# Altium schematic symbol library PROC051C_AWR1843BOOST_RevC.SCHLIB: 180 symbols (part 1 of 4)
Pins are listed as number, name and electrical type; pins without a type are passive.

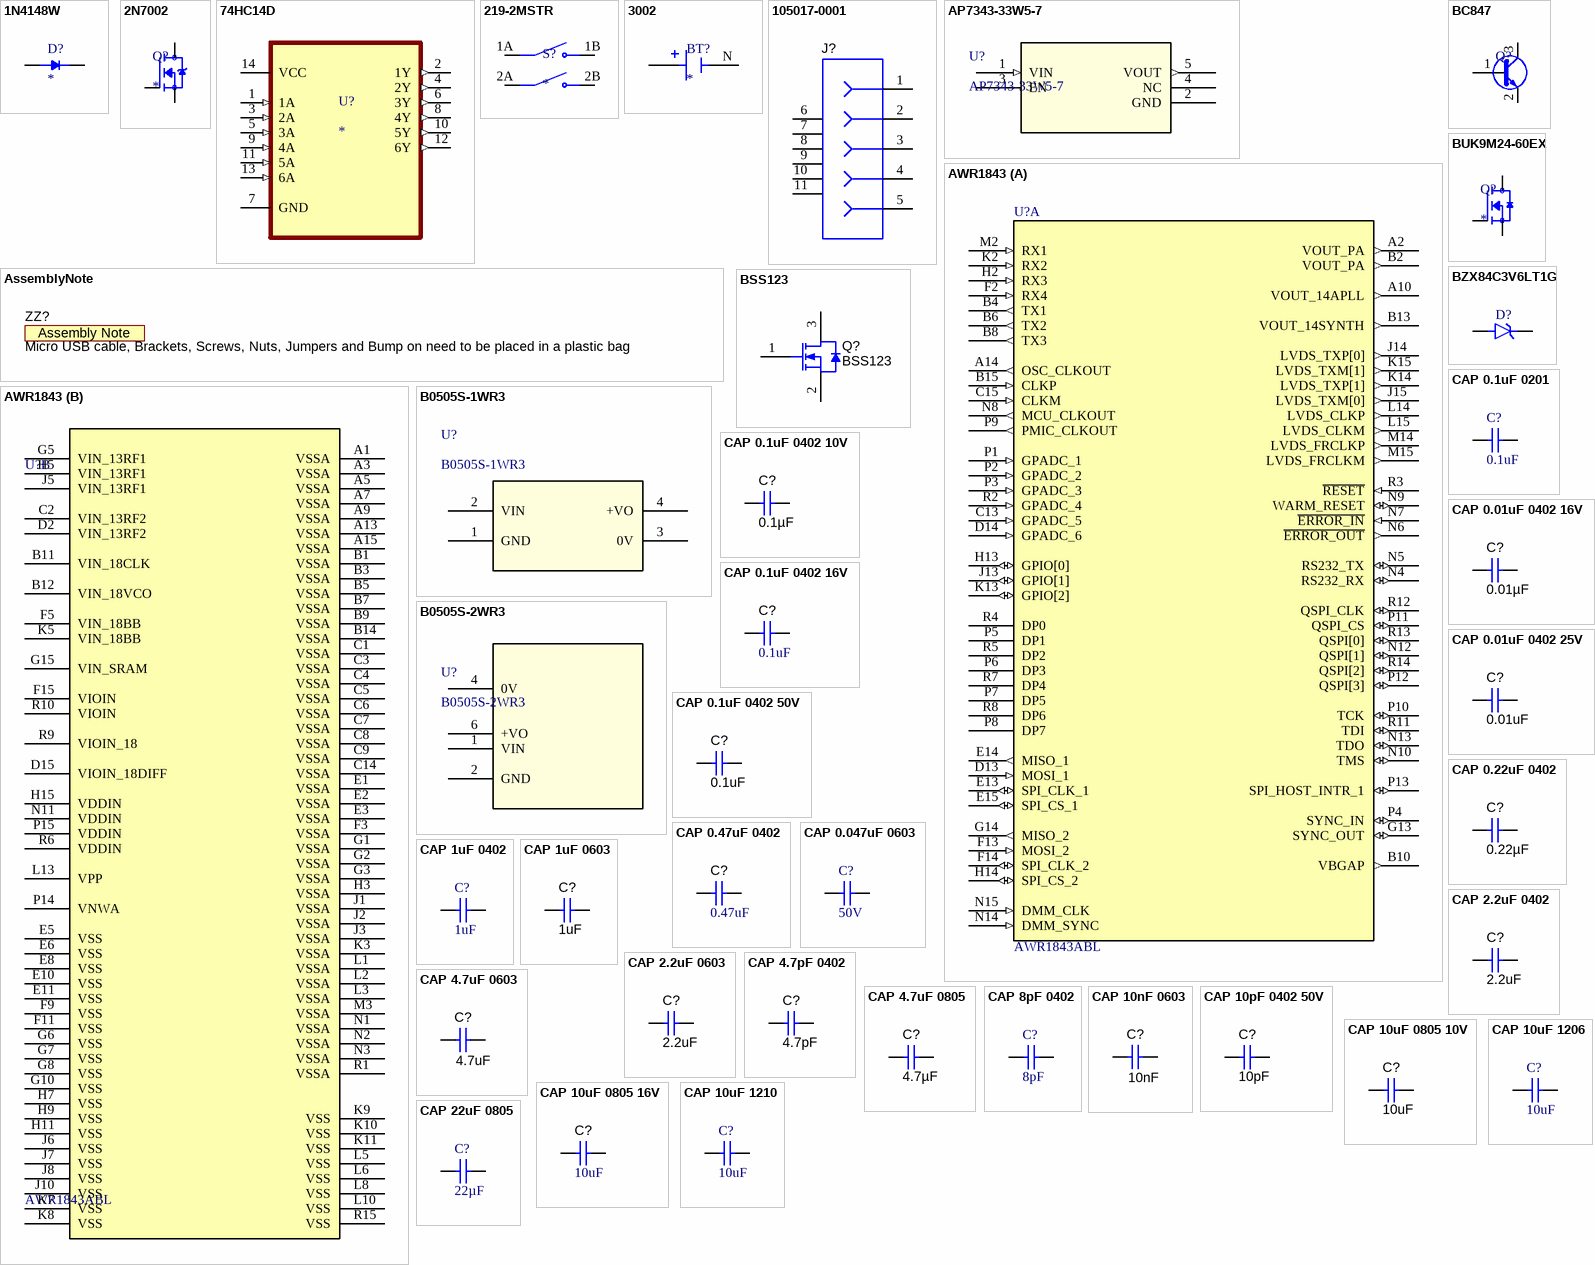
[diagram p0: symbols 1N4148W to CAP 22uF 0805]

## 1N4148W
designator D?
Diode Standard 100 V 300mA (DC) Surface Mount SOD-123; MF: Diodes Inc.; MP: 1N4148W-7; SnapEDA_Link: https://www.snapeda.com/parts/1N4148W-7/Diodes+Inc./view-part/?ref=snap; Package: SOD-123 Fairchild Semiconductor; Value: *; Check_prices: https://www.snapeda.com/parts/1N4148W-7/Diodes+Inc./view-part/?ref=eda
footprint SOD3715X135N
pins: A, C K

## 2N7002
designator Q?
Mosfet Array 2 N-Channel (Dual) 60V 300mA 500mW Surface Mount PG-SOT363-6; MF: onsemi; MP: 2N7002; SnapEDA_Link: https://www.snapeda.com/parts/2N7002/Onsemi/view-part/?ref=snap; Package: SOT-23-3 ON Semiconductor; Value: *; Check_prices: https://www.snapeda.com/parts/2N7002/Onsemi/view-part/?ref=eda
footprint SOT95P240X111-3N
pins: 1 G, 2 S, 3 D

## 74HC14D
designator U?
Inverter IC 6 Channel Schmitt Trigger 14-SOIC; MF: Toshiba; MP: 74HC14D; SnapEDA_Link: https://www.snapeda.com/parts/74HC14D/Toshiba/view-part/?ref=snap; Package: SO14-14 Nexperia USA Inc.; Value: *; Check_prices: https://www.snapeda.com/parts/74HC14D/Toshiba/view-part/?ref=eda
footprint SOIC127P600X175-14N
pins: 1 1A (in), 2 1Y (out), 3 2A (in), 4 2Y (out), 5 3A (in), 6 3Y (out), 7 GND, 8 4Y (out), 9 4A (in), 10 5Y (out), 11 5A (in), 12 6Y (out), 13 6A (in), 14 VCC (power)

## 219-2MSTR
designator S?
Dip Switch SPST 2 Position Surface Mount Slide (Standard) Actuator 100mA 20VDC; MF: CTS Electrocomponents; MP: 219-2MSTR; SnapEDA_Link: https://www.snapeda.com/parts/219-2MSTR/CTS+Components/view-part/?ref=snap; Package: None; Value: *; Check_prices: https://www.snapeda.com/parts/219-2MSTR/CTS+Components/view-part/?ref=eda
footprint SW_219-2MSTR
pins: 1A COM1, 1B NO1, 2A COM2, 2B NO2

## 3002
designator BT?
Battery Holder: SMT, 1 Coin Cell, 20mm, PhosBronze/Tin-Nickel | Keystone Electronics 3002; MF: Keystone Electronics Corp.; MP: 3002; SnapEDA_Link: https://www.snapeda.com/parts/3002/Keystone/view-part/?ref=snap; Package: NON STANDARD-2 Keystone; Value: *; Check_prices: https://www.snapeda.com/parts/3002/Keystone/view-part/?ref=eda
footprint BAT_3002
footprint BAT_3002
pins: N NEG, P1 POS, P2 POS

## 105017-0001
designator J?  (value not drawn)
Connector, Receptacle, Micro-USB Type B, R/A, Bottom Mount SMT; Manufacturer: Molex; CNHeader: FALSE; Green_Lifecycle: Active; Gender: Female; Green_REACh: Passed; CompType: USB; CT: TRUE; ComponentLink1URL: http://www.molex.com/pdm_docs/sd/1050170001_sd.pdf; Supplier Part Number 2: 78R1699; Publisher: Texas Instruments; Supplier 2: Newark; Supplier Part Number 3: 538-105017-0001; Supplier 3: Mouser; RoHS: Y; MountType: SMT; Green_EU RoHS-2: Passed; Supplier 1: Digi-Key; Green_EU RoHS: Passed; PackageReference: Micro USB receptacle; LatestRevisionDate: 26/05/2017; PartNumber: 105017-0001; ComponentLink1Description: Datasheet URL; Supplier Part Number 1: WM1399CT-ND
footprint CONN_105017-0001 (Molex Micro USB-B)
pins: 1, 2, 3, 4, 5, 6, 7, 8, 9, 10, 11

## AP7343-33W5-7
designator U?
Description; Manufacturer_Name: Diodes Inc; Type: Power Management; Copyright: Copyright (C) 2025 Ultra Librarian. All rights reserved.; Manufacturer_Part_Number: AP7343-33W5-7; RefDes: RefDes
footprint SOT25_DIO
pins: 1 VIN (in), 2 GND (power), 3 EN, 4 NC, 5 VOUT (out)

## AssemblyNote
designator ZZ?, comment Micro USB cable, Brackets, Screws, Nuts, Jumpers and Bump on need to be placed in a plastic bag  (no BOM)
SymbolCreator: codlsc; CompType: AssemblyNote; SymbolVersion: 2010-05-18; ClassName: AssemblyNote; Publisher: Texas Instruments; LatestRevisionDate: 2012-06-14; LatestRevisionNote: Initial Version; Alternate Manufacturer: -; Alternate PartNumber: -
footprint AssemblyNote (Assembly Note)
text: Assembly Note

## AWR1843
designator U?, comment AWR1843ABL
AWR1843ABL, ABL0161B (FCBGA-161); Manufacturer: Texas Instruments; AEC Qualified: N; SizeArea_mm2: 108.16; CompType: IC; SizeAreaWB_mm2: 153.76; AEC Category: Q200; SizeY_mm: 10.4; SizeZ_mm: 1.17; ComponentLink2Description: Product Folder; PackageDescription: FCBGA-161; PackageReference: ABL0161B; ComponentLink1Description: Datasheet Link; MountType: SMT; ComponentLink1URL: https://sps16.itg.ti.com/sites/KMS/crossdivteams/altium/docs/AWR1843_ballout_05Sep17.xlsx; ComponentLink2URL: TBD; Alternate Manufacturer: Texas Instruments; SizeX_mm: 10.4; PartId: 1; PartNumber: AWR1843ABL
footprint ABL0161B (BGA, 161-Balls, Body 10.4x10.4mm, Pitch 0.65mm)
part A pins: A2 VOUT_PA (out), A10 VOUT_14APLL (out), A14 OSC_CLKOUT (out), B2 VOUT_PA (out), B4 TX1 (out), B6 TX2 (out), B8 TX3 (out), B10 VBGAP (out), B13 VOUT_14SYNTH (out), B15 CLKP (in), C13 GPADC_5 (in), C15 CLKM (in), D13 MOSI_1 (in), D14 GPADC_6 (in), E13 SPI_CLK_1 (io), E14 MISO_1 (out), E15 SPI_CS_1 (io), F2 RX4 (in), F13 MOSI_2 (in), F14 SPI_CLK_2 (io), G13 SYNC_OUT (io), G14 MISO_2 (out), H2 RX3 (in), H13 GPIO[0] (io), H14 SPI_CS_2 (io), J13 GPIO[1] (io), J14 LVDS_TXP[0] (out), J15 LVDS_TXM[0] (out), K2 RX2 (in), K13 GPIO[2] (io), K14 LVDS_TXP[1] (out), K15 LVDS_TXM[1] (out), L14 LVDS_CLKP (out), L15 LVDS_CLKM (out), M2 RX1 (in), M14 LVDS_FRCLKP (out), M15 LVDS_FRCLKM (out), N4 RS232_RX (io), N5 RS232_TX (io), N6 ~{ERROR_OUT} (out), N7 ~{ERROR_IN} (in), N8 MCU_CLKOUT (out), N9 WARM_RESET (io), N10 TMS (io), N12 QSPI[1] (io), N13 TDO (io), N14 DMM_SYNC (in), N15 DMM_CLK (in), P1 GPADC_1 (in), P2 GPADC_2 (in), P3 GPADC_3 (in), P4 SYNC_IN (io), P5 DP1, P6 DP3, P7 DP5, P8 DP7, P9 PMIC_CLKOUT (out), P10 TCK (io), P11 QSPI_CS (io), P12 QSPI[3] (io), P13 SPI_HOST_INTR_1 (io), R2 GPADC_4 (in), R3 ~{RESET} (in), R4 DP0, R5 DP2, R7 DP4, R8 DP6, R11 TDI (io), R12 QSPI_CLK (io), R13 QSPI[0] (io), R14 QSPI[2] (io)
part B pins: A1 VSSA (power), A3 VSSA (power), A5 VSSA (power), A7 VSSA (power), A9 VSSA (power), A13 VSSA (power), A15 VSSA (power), B1 VSSA (power), B3 VSSA (power), B5 VSSA (power), B7 VSSA (power), B9 VSSA (power), B11 VIN_18CLK (power), B12 VIN_18VCO (power), B14 VSSA (power), C1 VSSA (power), C2 VIN_13RF2 (power), C3 VSSA (power), C4 VSSA (power), C5 VSSA (power), C6 VSSA (power), C7 VSSA (power), C8 VSSA (power), C9 VSSA (power), C14 VSSA (power), D2 VIN_13RF2 (power), D15 VIOIN_18DIFF (power), E1 VSSA (power), E2 VSSA (power), E3 VSSA (power), E5 VSS (power), E6 VSS (power), E8 VSS (power), E10 VSS (power), E11 VSS (power), F3 VSSA (power), F5 VIN_18BB (power), F9 VSS (power), F11 VSS (power), F15 VIOIN (power), G1 VSSA (power), G2 VSSA (power), G3 VSSA (power), G5 VIN_13RF1 (power), G6 VSS (power), G7 VSS (power), G8 VSS (power), G10 VSS (power), G15 VIN_SRAM (power), H3 VSSA (power), H5 VIN_13RF1 (power), H7 VSS (power), H9 VSS (power), H11 VSS (power), H15 VDDIN (power), J1 VSSA (power), J2 VSSA (power), J3 VSSA (power), J5 VIN_13RF1 (power), J6 VSS (power), J7 VSS (power), J8 VSS (power), J10 VSS (power), K3 VSSA (power), K5 VIN_18BB (power), K7 VSS (power), K8 VSS (power), K9 VSS (power), K10 VSS (power), K11 VSS (power), L1 VSSA (power), L2 VSSA (power), L3 VSSA (power), L5 VSS (power), L6 VSS (power), L8 VSS (power), L10 VSS (power), L13 VPP (power), M3 VSSA (power), N1 VSSA (power), N2 VSSA (power), N3 VSSA (power), N11 VDDIN (power), P14 VNWA (power), P15 VDDIN (power), R1 VSSA (power), R6 VDDIN (power), R9 VIOIN_18 (power), R10 VIOIN (power), R15 VSS (power)

## B0505S-1WR3
designator U?
Description; Manufacturer_Name: MORNSUN; Type: DC DC Converters; Copyright: Copyright (C) 2026 Ultra Librarian. All rights reserved.; Manufacturer_Part_Number: B0505S-1WR3; RefDes: RefDes
footprint SIP4_B_S-1WR3_MNS
pins: 1 GND (power), 2 VIN (power), 3 0V, 4 +VO (power)

## B0505S-2WR3
designator U?
Description; Manufacturer_Name: MORNSUN; Type: DC DC Converters; Copyright: Copyright (C) 2026 Ultra Librarian. All rights reserved.; Manufacturer_Part_Number: B0505S-2WR3; RefDes: RefDes
footprint B_S-2WR2_MNS
pins: 1 VIN (power), 2 GND (power), 4 0V, 6 +VO (power)

## BC847
designator Q?  (value not drawn)
footprint SOT-23 (SOT23, 3-Leads, Body 2.9x1.3mm, Pitch 0.95mm, Lead Span 2.5mm, IPC Medium Density)
pins: 1 B, 2 E, 3 C

## BSS123
designator Q?
MOSFET, N-CH, 100 V, 0.17 A, SOT-23; Alternate Manufacturer: None; Manufacturer: Fairchild Semiconductor; SizeZ_mm: 1.1; ChType: N; Value2: 1.8 nC; Value1: 1; VdsMax_V: 100V; SizeX_mm: 2.5; SizeY_mm: 3; Vgs_V: 20V; Value: 100V; Rdson45_ohm: 10; SizeArea_mm2: 7.5; AEC Category: Q101; IdsMax_A: 1.7dA; SizeAreaWB_mm2: 14; U/M: EA; QgTyp_nC: 1.8; Supplier 2: Newark; Supplier 3: Mouser; Supplier 1: Digi-Key; Supplier Part Number 1: BSS123NCT-ND; Supplier Part Number 2: 58K8768; PartNumber: BSS123; ComponentLink1Description: Datasheet link; LatestRevisionDate: 2017-03-09; CompType: MOSFET; PackageReference: SOT-23; LatestRevisionNote: Added parts.; Publisher: Texas Instruments; AEC Qualified: ?; Published: 2008-06-19; Supplier Part Number 3: 512-BSS123; RoHS: Y; MountType: SMT; ComponentLink1URL: http://www.fairchildsemi.com/ds/BS/BSS123.pdf
footprint SOT-23 (SOT23, 3-Leads, Body 2.9x1.3mm, Pitch 0.95mm, Lead Span 2.5mm, IPC Medium Density)
footprint SOT-23L (SOT23, 3-Leads, Body 2.9x1.3mm, Pitch 0.95mm, Lead Span 2.5mm, IPC High Density)
footprint SOT-23M (SOT23, 3-Leads, Body 2.9x1.3mm, Pitch 0.95mm, Lead Span 2.5mm, IPC Low Density)
pins: 1 G, 2 S, 3 D

## BUK9M24-60EX
designator Q?
N-Channel 60 V 32A (Tc) 55W (Tc) Surface Mount LFPAK33; MF: Nexperia USA; MP: BUK9M24-60EX; SnapEDA_Link: https://www.snapeda.com/parts/BUK9M24-60EX/Nexperia/view-part/?ref=snap; Package: LFPAK33-8 Nexperia USA Inc.; Value: *; Check_prices: https://www.snapeda.com/parts/BUK9M24-60EX/Nexperia/view-part/?ref=eda
footprint TRANS_BUK9M24-60EX
pins: 1 S, 2 S, 3 S, 4 G, 5_8 D

## BZX84C3V6LT1G
designator D?  (value not drawn)
MP: BZX84C10LT1G; Package: None; Price: None; Value: *; Availability: Unavailable
footprint SOT95P240X111-3N
pins: 1 A, 3 K

## CAP 0.1uF 0201
designator C?, comment ValueDisplayed: 0.1uF  (hidden comment: GRM033C71A104KE14D)
CAP, CERM, 0.1 uF, 10 V,+/- 10%, X7S, 0201; Manufacturer: MuRata; TaMin_C: -55°C; Polarized: N; SizeAreaWB_mm2: 2.08; Value1: Unknown; U/M: EA; Value: 0.1uF; TaMax_C: 125°C; SizeZ_mm: 0.26; SizeX_mm: 0.6; SizeY_mm: 0.3; Cap_Case: 0201; Value2: 10V; SizeArea_mm2: 0.18; CompType: Capacitor; Cap_F: 100nF; AEC Category: Q200; ComponentLink1URL: http://search.murata.co.jp/Ceramy/image/img/A01X/G101/ENG/GRM033C71A104KE14-01.pdf; Supplier Part Number 2: 81-GRM033C71A104KE4D; Publisher: Texas Instruments; Supplier 2: Mouser; TempCo: X7S; Published: 2008-06-19; RoHS: Y; MountType: SMT; Supplier 1: Digi-Key; PackageReference: 0201; Tolerance_%: 10%; LatestRevisionDate: 2017-06-05; PartNumber: GRM033C71A104KE14D; AEC Qualified: N; VDC_V: 10V; ComponentLink1Description: Datasheet link; AEC Grade: N/A; Supplier Part Number 1: 490-14450-1-ND; Technology: Ceramic
footprint 0201 (Data from Kemet datasheet CC101_COM dated 7/28/11)
footprint 0201_Silk (Data from Kemet datasheet CC101_COM dated 7/28/11)
footprint 0201L (Data from Kemet datasheet CC101_COM dated 7/28/11)
footprint 0201M (Data from Kemet datasheet CC101_COM dated 7/28/11)
pins: 1, 2

## CAP 0.1uF 0402 10V
designator C?, comment ValueDisplayed: 0.1µF  (hidden comment: C0402C104K8RACTU)
CAP, CERM, 0.1 µF, 10 V,+/- 10%, X7R, 0402; Manufacturer: Kemet; TaMin_C: -55°C; Polarized: N; SizeAreaWB_mm2: 3; U/M: EA; Value: 0.1uF; TaMax_C: 125°C; SizeZ_mm: 0.6; SizeX_mm: 1; SizeY_mm: 0.5; Cap_Case: 0402; Value2: 10V; CompType: Capacitor; Cap_F: 100nF; AEC Category: Q200; ComponentLink1URL: https://content.kemet.com/datasheets/KEM_C1002_X7R_SMD.pdf; Supplier Part Number 2: 68X2393; Supplier 2: Newark; Supplier Part Number 3: 80-C0402C104K8R; TempCo: X7R; Supplier 3: Mouser; RoHS: Y; MountType: SMT; Supplier 1: Digi-Key; PackageReference: 0402; Tolerance_%: 10%; SizeArea_mm2: 0.5; PartNumber: C0402C104K8RACTU; AEC Qualified: N; VDC_V: 10V; ComponentLink1Description: Datasheet link; AEC Grade: N/A; Supplier Part Number 1: 399-3520-1-ND; Technology: Ceramic
footprint 0402 (0402 from SM-752 data)
footprint 0402M (0402 from SM-752 data)
footprint 0402L (0402 from SM-752 data)
footprint 0402S (Based on C0402S footprint from PADS legacy)
pins: 1, 2

## CAP 0.01uF 0402 16V
designator C?, comment ValueDisplayed: 0.01µF  (hidden comment: C0402C103K4RACTU)
CAP, CERM, 0.01 µF, 16 V,+/- 10%, X7R, 0402; Manufacturer: Kemet; TaMin_C: -55°C; Polarized: N; Green_Lifecycle: Active; SizeAreaWB_mm2: 3; Green_REACh: Passed; U/M: EA; Value: 0.01uF; TaMax_C: 125°C; SizeZ_mm: 0.6; SizeX_mm: 1; SizeY_mm: 0.5; Cap_Case: 0402; Value2: 16V; CompType: Capacitor; Cap_F: 10nF; AEC Category: Q200; ComponentLink1URL: https://content.kemet.com/datasheets/KEM_C1002_X7R_SMD.pdf; Supplier Part Number 2: 66W8706; Supplier 2: Newark; Supplier Part Number 3: 80-C0402C103K4R; TempCo: X7R; Supplier 3: Mouser; RoHS: Y; MountType: SMT; Green_EU RoHS-2: Passed; Supplier 1: Digi-Key; Green_EU RoHS: Passed; PackageReference: 0402; Tolerance_%: 10%; SizeArea_mm2: 0.5; PartNumber: C0402C103K4RACTU; AEC Qualified: N; VDC_V: 16V; ComponentLink1Description: Datasheet link; AEC Grade: N/A; Supplier Part Number 1: 399-1038-1-ND; Technology: Ceramic
footprint 0402 (0402 from SM-752 data)
footprint 0402M (0402 from SM-752 data)
footprint 0402L (0402 from SM-752 data)
footprint 0402S (Based on C0402S footprint from PADS legacy)
pins: 1, 2

## CAP 0.1uF 0402 16V
designator C?, comment ValueDisplayed: 0.1uF  (hidden comment: Capacitor)
CAP, CERM, 0.1 uF, 16 V, +/- 10%, X7R, 0402; PartNumber: 0402YC104KAT2A; Manufacturer: AVX; Polarized: N; Value: 0.1uF; U/M: EA; Cap_F: 100nF; Value1: Unknown; VDC_V: 16V; TaMin_C: -55°C; TaMax_C: 125°C; Cap_Case: 0402; SizeArea_mm2: 0.5; SizeAreaWB_mm2: 3; SizeX_mm: 1; SizeZ_mm: 0.6; AEC Category: Q200; CompType: Capacitor; PackageReference: 0402; RoHS: Y; Tolerance_%: 10%; Value2: 16V; MountType: SMT; Technology: Ceramic; TempCo: X7R; SizeY_mm: 0.5; Published: 2008-06-19; Publisher: Texas Instruments; LatestRevisionDate: 2017-03-09; ComponentLink1Description: Datasheet link; ComponentLink1URL: http://catalogs.avx.com/SurfaceMount.pdf; Supplier 1: Digi-Key; Supplier Part Number 1: 478-7888-1-ND; Supplier 2: Newark; Supplier Part Number 2: 09R7024; Supplier 3: Mouser; Supplier Part Number 3: 581-0402YC104KAT2A; AEC Qualified: N; AEC Grade: N/A
footprint 0402 (0402 from SM-752 data)
footprint 0402S (Based on C0402S footprint from PADS legacy)
footprint 0402L (0402 from SM-752 data)
footprint 0402M (0402 from SM-752 data)
pins: 1, 2

## CAP 0.01uF 0402 25V
designator C?, comment ValueDisplayed: 0.01uF  (hidden comment: GCM155R71E103KA37D)
CAP, CERM, 0.01 uF, 25 V, +/- 10%, X7R, 0402; Manufacturer: MuRata; TaMin_C: -55°C; Polarized: N; SizeAreaWB_mm2: 3; Value1: Unknown; U/M: EA; Value: 0.01uF; TaMax_C: 125°C; SizeZ_mm: 0.6; SizeX_mm: 1; SizeY_mm: 0.5; Cap_Case: 0402; Value2: 25V; CompType: Capacitor; Cap_F: 10nF; AEC Category: Q200; Publisher: Texas Instruments; TempCo: X7R; Published: 2008-06-19; RoHS: Y; MountType: SMT; Supplier 1: Digi-Key; PackageReference: 0402; Tolerance_%: 10%; SizeArea_mm2: 0.5; LatestRevisionDate: 2017-03-09; PartNumber: GCM155R71E103KA37D; AEC Qualified: ?; VDC_V: 25V; ComponentLink1Description: Datasheet link; Supplier Part Number 1: 490-6043-2-ND; Technology: Ceramic; ComponentLink1URL: http://psearch.murata.com/capacitor/product/GCM155R71E103KA37%23.pdf
footprint 0402 (0402 from SM-752 data)
footprint 0402S (Based on C0402S footprint from PADS legacy)
footprint 0402L (0402 from SM-752 data)
footprint 0402M (0402 from SM-752 data)
pins: 1, 2

## CAP 0.1uF 0402 50V
designator C?, comment ValueDisplayed: 0.1uF  (hidden comment: CGA2B3X7R1H104K050BB)
CAP, CERM, 0.1 uF, 50 V, +/- 10%, X7R, AEC-Q200 Grade 1, 0402; Manufacturer: TDK; TaMin_C: -55°C; ESR_ohm: 0.039064; Polarized: N; SizeAreaWB_mm2: 3; Value1: 0.039064 ohm; U/M: EA; Value: 0.1uF; TaMax_C: 125°C; SizeZ_mm: 0.6; SizeX_mm: 1; SizeY_mm: 0.5; Cap_Case: 0402; Value2: 50V; CompType: Capacitor; AEC Qualified: Y; Cap_F: 100nF; IRMS_A: 8.14669dA; AEC Category: Q200; Supplier Part Number 2: 04X3148; Publisher: Texas Instruments; Supplier 2: Newark; Supplier Part Number 3: 810-CGA2B3X7R1H104K; TempCo: X7R; Supplier 3: Mouser; Published: 2008-06-19; RoHS: Y; MountType: SMT; Supplier 1: Digi-Key; PackageReference: 0402; Tolerance_%: 10%; SizeArea_mm2: 0.5; LatestRevisionDate: 2017-03-09; PartNumber: CGA2B3X7R1H104K050BB; VDC_V: 50V; ComponentLink1Description: Datasheet link; AEC Grade: 1; Supplier Part Number 1: 445-6899-1-ND; Technology: Ceramic; ComponentLink1URL: https://product.tdk.com/en/search/capacitor/ceramic/mlcc/info?part_no=CGA2B3X7R1H104K050BB
footprint 0402 (0402 from SM-752 data)
footprint 0402S (Based on C0402S footprint from PADS legacy)
footprint 0402L (0402 from SM-752 data)
footprint 0402M (0402 from SM-752 data)
pins: 1, 2

## CAP 0.22uF 0402
designator C?, comment ValueDisplayed: 0.22µF  (hidden comment: GCM155R71C224KE02D)
CAP, CERM, 0.22 µF, 16 V,+/- 10%, X7R, AEC-Q200 Grade 1, 0402; Manufacturer: MuRata; TaMin_C: -55°C; Polarized: N; SizeAreaWB_mm2: 3; U/M: EA; Value: 0.22uF; TaMax_C: 125°C; SizeZ_mm: 0.6; SizeX_mm: 1; SizeY_mm: 0.5; Cap_Case: 0402; Value2: 16V; CompType: Capacitor; AEC Qualified: Y; Cap_F: 220nF; AEC Category: Q200; ComponentLink1URL: http://psearch.en.murata.com/capacitor/product/GCM155R71C224KE02%23.pdf; Supplier Part Number 2: 81-GCM155R71C224KE2D; Supplier 2: Mouser; TempCo: X7R; RoHS: Y; MountType: SMT; Supplier 1: Digi-Key; PackageReference: 0402; Tolerance_%: 10%; SizeArea_mm2: 0.5; PartNumber: GCM155R71C224KE02D; VDC_V: 16V; ComponentLink1Description: Datasheet link; AEC Grade: 1; Supplier Part Number 1: 490-10671-1-ND; Technology: Ceramic
footprint 0402 (0402 from SM-752 data)
footprint 0402M (0402 from SM-752 data)
footprint 0402L (0402 from SM-752 data)
footprint 0402S (Based on C0402S footprint from PADS legacy)
pins: 1, 2

## CAP 0.47uF 0402
designator C?, comment ValueDisplayed: 0.47uF  (hidden comment: Capacitor)
CAP, CERM, 0.47 uF, 6.3 V, +/- 10%, X7R, 0402; PartNumber: JMK105B7474KVHF; Manufacturer: Taiyo Yuden; Polarized: N; Value: 0.47uF; U/M: EA; Cap_F: 470nF; Value1: Unknown; VDC_V: 6.3V; TaMin_C: -55°C; TaMax_C: 125°C; Cap_Case: 0402; SizeArea_mm2: 0.5; SizeAreaWB_mm2: 3; SizeX_mm: 1; SizeZ_mm: 0.6; AEC Category: Q200; CompType: Capacitor; PackageReference: 0402; RoHS: Y; Tolerance_%: 10%; Value2: 6.3V; MountType: SMT; Technology: Ceramic; TempCo: X7R; SizeY_mm: 0.5; Published: 2008-06-19; Publisher: Texas Instruments; LatestRevisionDate: 2017-03-09; ComponentLink1Description: Datasheet link; ComponentLink1URL: http://ds.yuden.co.jp/TYCOMPAS/ut/detail.do?productNo=JMK105B7474KVHF&fileName=JMK105B7474KVHF_SS&mode=specSheetDownload; Supplier 1: Digi-Key; Supplier Part Number 1: 587-3765-1-ND; Supplier 2: Newark; Supplier Part Number 2: 68X1479; Supplier 3: Mouser; Supplier Part Number 3: 963-JMK105B7474KVHF; AEC Qualified: N; AEC Grade: N/A
footprint 0402 (0402 from SM-752 data)
footprint 0402S (Based on C0402S footprint from PADS legacy)
footprint 0402L (0402 from SM-752 data)
footprint 0402M (0402 from SM-752 data)
pins: 1, 2

## CAP 0.047uF 0603
designator C?, comment VDC_V: 50V  (hidden comment: 06035C473JAT2A)
CAP, CERM, 0.047 µF, 50 V,+/- 5%, X7R, 0603; Manufacturer: AVX; Cap_F: 47nF; TaMax_C: 125°C; Value: 0.047uF; SizeX_mm: 1.6; SizeArea_mm2: 1.28; AEC Category: Q200; SizeY_mm: 0.8; Polarized: N; Cap_Case: 0603; CompType: Capacitor; SizeAreaWB_mm2: 4.68; U/M: EA; TaMin_C: -55°C; SizeZ_mm: 1; Tolerance_%: 5%; ComponentLink1URL: http://datasheets.avx.com/X7RDielectric.pdf; Value2: 50V; MountType: SMT; Technology: Ceramic; PartNumber: 06035C473JAT2A; AEC Grade: N/A; ComponentLink1Description: Datasheet link; ValueDisplayed: 0.047µF; PackageReference: 0603; RoHS: Y; TempCo: X7R; AEC Qualified: N
footprint 0603 (0603 from SM-752 data)
footprint 0603M (0603 from SM-752 data)
footprint 0603L (0603 from SM-752 data)
footprint 0603_HV (Ernesto recommended land pattern.  26 mil between pads.)
footprint 0603S
pins: 1, 2

## CAP 1uF 0402
designator C?, comment ValueDisplayed: 1uF  (hidden comment: GCM155C71A105KE38D)
CAP, CERM, 1 uF, 10 V, +/- 10%, X7S, AEC-Q200 Grade 1, 0402; Manufacturer: MuRata; TaMin_C: -55°C; Polarized: N; SizeAreaWB_mm2: 3; Value1: Unknown; U/M: EA; Value: 1uF; TaMax_C: 125°C; SizeZ_mm: 0.7; SizeX_mm: 1; SizeY_mm: 0.5; Cap_Case: 0402; Value2: 10V; CompType: Capacitor; AEC Qualified: Y; Cap_F: 1µF; AEC Category: Q200; Publisher: Texas Instruments; TempCo: X7S; Published: 2008-06-19; RoHS: Y; MountType: SMT; Supplier 1: Mouser; PackageReference: 0402; Tolerance_%: 10%; SizeArea_mm2: 0.5; LatestRevisionDate: 2017-03-09; PartNumber: GCM155C71A105KE38D; VDC_V: 10V; ComponentLink1Description: Datasheet link; AEC Grade: 1; Supplier Part Number 1: 81-GCM155C71A105KE8D; Technology: Ceramic; ComponentLink1URL: http://psearch.en.murata.com/capacitor/product/GCM155C71A105KE38%23.pdf
footprint 0402_070 (SMD, 2-Leads, Body 1.2x0.7mm, Height 0.7mm)
pins: 1, 2

## CAP 1uF 0603
designator C?, comment ValueDisplayed: 1uF  (hidden comment: GCM188R71C105KA64D)
CAP, CERM, 1 uF, 16 V, +/- 10%, X7R, AEC-Q200 Grade 1, 0603; Manufacturer: MuRata; TaMin_C: -55°C; Polarized: N; SizeAreaWB_mm2: 4.68; Value1: Unknown; U/M: EA; Value: 1uF; TaMax_C: 125°C; SizeZ_mm: 1; SizeX_mm: 1.6; SizeY_mm: 0.8; Cap_Case: 0603; Value2: 16V; SizeArea_mm2: 1.28; CompType: Capacitor; AEC Qualified: Y; Cap_F: 1µF; AEC Category: Q200; Supplier Part Number 2: 81-GCM188R71C105K64D; Publisher: Texas Instruments; Supplier 2: Mouser; TempCo: X7R; Published: 2008-06-19; RoHS: Y; MountType: SMT; Supplier 1: Digi-Key; PackageReference: 0603; Tolerance_%: 10%; LatestRevisionDate: 2017-03-09; PartNumber: GCM188R71C105KA64D; VDC_V: 16V; ComponentLink1Description: Datasheet link; AEC Grade: 1; Supplier Part Number 1: 490-5241-6-ND; Technology: Ceramic; ComponentLink1URL: http://psearch.en.murata.com/capacitor/product/GCM188R71C105KA64%23.pdf
footprint 0603 (0603 from SM-752 data)
footprint 0603_HV (Ernesto recommended land pattern.  26 mil between pads.)
footprint 0603L (0603 from SM-752 data)
footprint 0603S
footprint 0603M (0603 from SM-752 data)
pins: 1, 2

## CAP 2.2uF 0402
designator C?, comment ValueDisplayed: 2.2uF  (hidden comment: C1005X7S1A225K050BC)
CAP, CERM, 2.2 uF, 10 V, +/- 10%, X7S, 0402; Manufacturer: TDK; TaMin_C: -55°C; ESR_ohm: 5.925m; Polarized: N; SizeAreaWB_mm2: 3; Value1: 0.005925 ohm; U/M: EA; Value: 2.2uF; TaMax_C: 125°C; SizeZ_mm: 0.65; SizeX_mm: 1; SizeY_mm: 0.5; Cap_Case: 0402_065; Value2: 10V; CompType: Capacitor; Cap_F: 2.2µF; IRMS_A: 2.05591A; AEC Category: Q200; Supplier Part Number 2: 810-C1005X7S1A225K; Publisher: Texas Instruments; Supplier 2: Mouser; TempCo: X7S; Published: 2008-06-19; RoHS: Y; MountType: SMT; Supplier 1: Digi-Key; PackageReference: 0402; Tolerance_%: 10%; SizeArea_mm2: 0.5; LatestRevisionDate: 2017-03-09; PartNumber: C1005X7S1A225K050BC; AEC Qualified: N; VDC_V: 10V; ComponentLink1Description: Datasheet link; AEC Grade: N/A; Supplier Part Number 1: 445-9097-1-ND; Technology: Ceramic; ComponentLink1URL: https://product.tdk.com/en/search/capacitor/ceramic/mlcc/info?part_no=C1005X7S1A225K050BC
footprint 0402_065 (0402)
footprint 0402_065S (Based on C0402S footprint from PADS legacy)
footprint 0402_065L (0402)
footprint 0402_065M (0402)
pins: 1, 2

## CAP 2.2uF 0603
designator C?, comment ValueDisplayed: 2.2uF  (hidden comment: GCM188R70J225KE22D)
CAP, CERM, 2.2 uF, 6.3 V, +/- 10%, X7R, AEC-Q200 Grade 1, 0603; Manufacturer: MuRata; TaMin_C: -55°C; Polarized: N; SizeAreaWB_mm2: 4.68; Value1: Unknown; U/M: EA; Value: 2.2uF; TaMax_C: 125°C; SizeZ_mm: 1; SizeX_mm: 1.6; SizeY_mm: 0.8; Cap_Case: 0603; Value2: 6.3V; SizeArea_mm2: 1.28; CompType: Capacitor; AEC Qualified: Y; Cap_F: 2.2µF; AEC Category: Q200; Supplier Part Number 2: 81-GCM188R70J225KE2D; Publisher: Texas Instruments; Supplier 2: Mouser; TempCo: X7R; Published: 2008-06-19; RoHS: Y; MountType: SMT; Supplier 1: Digi-Key; PackageReference: 0603; Tolerance_%: 10%; LatestRevisionDate: 2017-03-09; PartNumber: GCM188R70J225KE22D; VDC_V: 6.3V; ComponentLink1Description: Datasheet link; AEC Grade: 1; Supplier Part Number 1: 490-5316-1-ND; Technology: Ceramic; ComponentLink1URL: http://psearch.en.murata.com/capacitor/product/GCM188R70J225KE22%23.pdf
footprint 0603 (0603 from SM-752 data)
footprint 0603_HV (Ernesto recommended land pattern.  26 mil between pads.)
footprint 0603L (0603 from SM-752 data)
footprint 0603S
footprint 0603M (0603 from SM-752 data)
pins: 1, 2

## CAP 4.7pF 0402
designator C?, comment ValueDisplayed: 4.7pF  (hidden comment: GJM1555C1H4R7BB01D)
CAP, CERM, 4.7 pF, 50 V, +/- 2%, C0G/NP0, 0402; Manufacturer: MuRata; TaMin_C: -55°C; Polarized: N; SizeAreaWB_mm2: 3; Value1: Unknown; U/M: EA; Value: 4.7pF; TaMax_C: 125°C; SizeZ_mm: 0.6; SizeX_mm: 1; SizeY_mm: 0.5; Cap_Case: 0402; Value2: 50V; CompType: Capacitor; AEC Category: Q200; Supplier Part Number 2: 81-GJM1555C1H4R7BB01; Publisher: Texas Instruments; Supplier 2: Mouser; TempCo: C0G/NP0; Published: 2008-06-19; RoHS: Y; MountType: SMT; Supplier 1: Digi-Key; PackageReference: 0402; Tolerance_%: 2%; SizeArea_mm2: 0.5; LatestRevisionDate: 2017-03-09; PartNumber: GJM1555C1H4R7BB01D; AEC Qualified: N; Cap_F: 4.7pF; VDC_V: 50V; ComponentLink1Description: Datasheet link; AEC Grade: N/A; Supplier Part Number 1: 490-8102-1-ND; Technology: Ceramic; ComponentLink1URL: http://psearch.murata.com/capacitor/product/GJM1555C1H4R7BB01%23.pdf
footprint 0402 (0402 from SM-752 data)
footprint 0402S (Based on C0402S footprint from PADS legacy)
footprint 0402L (0402 from SM-752 data)
footprint 0402M (0402 from SM-752 data)
pins: 1, 2

## CAP 4.7uF 0603
designator C?  ValueDisplayed: 4.7uF  (hidden comment: CAP 4.7uF 0603)
CAP, CERM, 4.7 uF, 10 V, +/- 10%, X7R, AEC-Q200 Grade 1, 0603; Manufacturer: MuRata; PartNumber: GCM188R70J225KE22D; TaMin_C: -55°C; Polarized: N; SizeAreaWB_mm2: 4.68; Value1: Unknown; U/M: EA; Value: 2.2uF; TaMax_C: 125°C; SizeZ_mm: 1; SizeX_mm: 1.6; SizeY_mm: 0.8; Cap_Case: 0603; Value2: 6.3V; SizeArea_mm2: 1.28; CompType: Capacitor; AEC Qualified: Y; Cap_F: 2.2µF; AEC Category: Q200; Supplier Part Number 2: 81-GCM188R70J225KE2D; Publisher: Texas Instruments; Supplier 2: Mouser; TempCo: X7R; Published: 2008-06-19; RoHS: Y; MountType: SMT; Supplier 1: Digi-Key; PackageReference: 0603; Tolerance_%: 10%; LatestRevisionDate: 2017-03-09; VDC_V: 6.3V; ComponentLink1Description: Datasheet link; AEC Grade: 1; Supplier Part Number 1: 490-5316-1-ND; Technology: Ceramic; ComponentLink1URL: http://psearch.en.murata.com/capacitor/product/GCM188R70J225KE22%23.pdf
footprint 0603 (0603 from SM-752 data)
footprint 0603_HV (Ernesto recommended land pattern.  26 mil between pads.)
footprint 0603L (0603 from SM-752 data)
footprint 0603S
footprint 0603M (0603 from SM-752 data)
pins: 1, 2

## CAP 4.7uF 0805
designator C?, comment ValueDisplayed: 4.7µF  (hidden comment: CGA4J1X7R1E475K125AC)
CAP, CERM, 4.7 µF, 25 V,+/- 10%, X7R, AEC-Q200 Grade 1, 0805; Manufacturer: TDK; SizeAreaWB_mm2: 6.75; SizeArea_mm2: 2.5; AEC Qualified: Y; AEC Category: Q200; Value: 4.7uF; TaMax_C: 125°C; SizeZ_mm: 1.45; AEC Grade: 1; Polarized: N; TaMin_C: -55°C; VDC_V: 25V; SizeY_mm: 1.25; U/M: EA; CompType: Capacitor; SizeX_mm: 2.0; Cap_Case: 2x1.25x1.25mm; ComponentLink1Description: Datasheet link; Cap_F: 4.7µF; RoHS: Y; Supplier Part Number 3: 810-CGA4J1X7R1E475K; Tolerance_%: 10%; Supplier 1: Digi-Key; PackageReference: 0805; Technology: Ceramic; PartNumber: CGA4J1X7R1E475K125AC; Publisher: Texas Instruments; TempCo: X7R; Supplier Part Number 2: 05X9644; Supplier 2: Newark; Published: 2008-06-19; Value2: 25V; LatestRevisionDate: 2017-07-17; ComponentLink1URL: https://product.tdk.com/info/en/catalog/spec/mlccspec_automotive_general_midvoltage_en.pdf; MountType: SMT; Supplier Part Number 1: 445-6967-1-ND; Supplier 3: Mouser
footprint 0805L (0805 from SM-752 data)
footprint 0805M (0805 from SM-752 data)
footprint 0805 (0805 from SM-752 data)
footprint 0805_HV1 (Custom footprint based on analyzing multiple manufacturer recommendations)
footprint 0805_HV (0805 with 30mil clearance between pads)
pins: 1, 2

## CAP 8pF 0402
designator C?, comment Cap_F: 8pF  (hidden comment: GCM1555C1H8R0DA16D)
Cap Ceramic 8pF 50V C0G 0.5pF SMD 0402 125C Paper T/R; Manufacturer: Murata Electronics North America; AEC Qualified: Yes; TempCo: 30ppm/°C; AEC Grade: Grade 1; SizeZ_mm: 0.55mm; RoHS: TRUE; PartNumber: GCM1555C1H8R0DA16D; PackageReference: 0402; ComponentLink1URL: https://search.murata.co.jp/Ceramy/image/img/A01X/G101/ENG/GCM1555C1H8R0DA16-01.pdf; ComponentLink1Description: Datasheet
footprint 0402 (0402 from SM-752 data)
footprint 0402L (0402 from SM-752 data)
footprint 0402M (0402 from SM-752 data)
footprint 0402S (Based on C0402S footprint from PADS legacy)
pins: 1, 2

## CAP 10nF 0603
designator C?  ValueDisplayed: 10nF  (hidden comment: CAP 10nF 0603)
CAP, CERM, 10 nF, 50 V, +/- 10%, X7R, AEC-Q200 Grade 1, 0603; Manufacturer: MuRata; PartNumber: GCM188R70J225KE22D; TaMin_C: -55°C; Polarized: N; SizeAreaWB_mm2: 4.68; Value1: Unknown; U/M: EA; Value: 2.2uF; TaMax_C: 125°C; SizeZ_mm: 1; SizeX_mm: 1.6; SizeY_mm: 0.8; Cap_Case: 0603; Value2: 6.3V; SizeArea_mm2: 1.28; CompType: Capacitor; AEC Qualified: Y; Cap_F: 2.2µF; AEC Category: Q200; Supplier Part Number 2: 81-GCM188R70J225KE2D; Publisher: Texas Instruments; Supplier 2: Mouser; TempCo: X7R; Published: 2008-06-19; RoHS: Y; MountType: SMT; Supplier 1: Digi-Key; PackageReference: 0603; Tolerance_%: 10%; LatestRevisionDate: 2017-03-09; VDC_V: 6.3V; ComponentLink1Description: Datasheet link; AEC Grade: 1; Supplier Part Number 1: 490-5316-1-ND; Technology: Ceramic; ComponentLink1URL: http://psearch.en.murata.com/capacitor/product/GCM188R70J225KE22%23.pdf
footprint 0603 (0603 from SM-752 data)
footprint 0603_HV (Ernesto recommended land pattern.  26 mil between pads.)
footprint 0603L (0603 from SM-752 data)
footprint 0603S
footprint 0603M (0603 from SM-752 data)
pins: 1, 2

## CAP 10pF 0402 50V
designator C?, comment ValueDisplayed: 10pF  (hidden comment: CGA2B3X7R1H104K050BB)
CAP, CERM, 10 pF, 50 V, +/- 5%, X7R, AEC-Q200 Grade 1, 0402; Manufacturer: TDK; TaMin_C: -55°C; ESR_ohm: 0.039064; Polarized: N; SizeAreaWB_mm2: 3; Value1: 0.039064 ohm; U/M: EA; Value: 0.1uF; TaMax_C: 125°C; Tolerance_%: 10%; SizeZ_mm: 0.6; SizeX_mm: 1; SizeY_mm: 0.5; Cap_Case: 0402; Value2: 50V; CompType: Capacitor; AEC Qualified: Y; Cap_F: 100nF; IRMS_A: 8.14669dA; AEC Category: Q200; Supplier Part Number 2: 04X3148; Publisher: Texas Instruments; Supplier 2: Newark; Supplier Part Number 3: 810-CGA2B3X7R1H104K; TempCo: X7R; Supplier 3: Mouser; Published: 2008-06-19; RoHS: Y; MountType: SMT; Supplier 1: Digi-Key; PackageReference: 0402; SizeArea_mm2: 0.5; LatestRevisionDate: 2017-03-09; PartNumber: CGA2B3X7R1H104K050BB; VDC_V: 50V; ComponentLink1Description: Datasheet link; AEC Grade: 1; Supplier Part Number 1: 445-6899-1-ND; Technology: Ceramic; ComponentLink1URL: https://product.tdk.com/en/search/capacitor/ceramic/mlcc/info?part_no=CGA2B3X7R1H104K050BB
footprint 0402 (0402 from SM-752 data)
footprint 0402S (Based on C0402S footprint from PADS legacy)
footprint 0402L (0402 from SM-752 data)
footprint 0402M (0402 from SM-752 data)
pins: 1, 2

## CAP 10uF 0805 10V
designator C?, comment ValueDisplayed: 10uF  (hidden comment: GCM21BR71A106KE22L)
CAP, CERM, 10 uF, 10 V, +/- 10%, X7R, 0805; Manufacturer: MuRata; TaMin_C: -55°C; Polarized: N; SizeAreaWB_mm2: 6.75; Value1: Unknown; U/M: EA; Value: 10uF; TaMax_C: 125°C; SizeZ_mm: 1.45; SizeX_mm: 2; SizeY_mm: 1.25; Cap_Case: 0805; Value2: 10V; SizeArea_mm2: 2.5; CompType: Capacitor; Cap_F: 10µF; AEC Category: Q200; Supplier Part Number 2: 06AC6014; Publisher: Texas Instruments; Supplier 2: Newark; Supplier Part Number 3: 81-GCM21BR71A106KE2L; TempCo: X7R; Supplier 3: Mouser; Published: 2008-06-19; RoHS: Y; MountType: SMT; Supplier 1: Digi-Key; PackageReference: 0805; Tolerance_%: 10%; LatestRevisionDate: 2017-03-09; PartNumber: GCM21BR71A106KE22L; AEC Qualified: ?; VDC_V: 10V; ComponentLink1Description: Datasheet link; Supplier Part Number 1: 490-10674-1-ND; Technology: Ceramic; ComponentLink1URL: http://www.murata.com/products/catalog/pdf/c03e.pdf
footprint 0805_HV (0805 with 30mil clearance between pads)
footprint 0805M (0805 from SM-752 data)
footprint 0805 (0805 from SM-752 data)
footprint 0805L (0805 from SM-752 data)
footprint 0805_HV1 (Custom footprint based on analyzing multiple manufacturer recommendations)
pins: 1, 2

## CAP 10uF 0805 16V
designator C?, comment ValueDisplayed: 10uF  (hidden comment: Capacitor)
CAP, CERM, 10 uF, 16 V, +/- 10%, X7R, 0805; PartNumber: CL21B106KOQNNNE; Manufacturer: Samsung Electro-Mechanics; Polarized: N; Value: 10uF; U/M: EA; Cap_F: 10µF; Value1: Unknown; VDC_V: 16V; TaMin_C: -55°C; TaMax_C: 125°C; Cap_Case: 0805; SizeArea_mm2: 2.5; SizeAreaWB_mm2: 6.75; SizeX_mm: 2; SizeY_mm: 1.25; SizeZ_mm: 1.45; AEC Category: Q200; CompType: Capacitor; PackageReference: 0805; RoHS: Y; Tolerance_%: 10%; Value2: 16V; MountType: SMT; Technology: Ceramic; TempCo: X7R; Published: 2008-06-19; Publisher: Texas Instruments; LatestRevisionDate: 2017-03-09; ComponentLink1Description: Datasheet link; ComponentLink1URL: http://www.samsungsem.com/servlet/FileDownload?type=spec&file=CL21B106KOQNNNE.pdf; AEC Qualified: ?
footprint 0805_HV (0805 with 30mil clearance between pads)
footprint 0805M (0805 from SM-752 data)
footprint 0805 (0805 from SM-752 data)
footprint 0805L (0805 from SM-752 data)
footprint 0805_HV1 (Custom footprint based on analyzing multiple manufacturer recommendations)
pins: 1, 2

## CAP 10uF 1206
designator C?, comment ValueDisplayed: 10uF  (hidden comment: CGA6P1X7R1E106M250AC)
Manufacturer: TDK; TaMin_C: -55°C; Polarized: N; TempCo: X7R; SizeAreaWB_mm2: 14.7; Value1: Unknown; U/M: EA; Value: 10uF; TaMax_C: 125°C; Tolerance_%: 20%; SizeZ_mm: 2.8; SizeX_mm: 3.2; SizeY_mm: 2.5; Cap_Case: 1210; Value2: 25V; SizeArea_mm2: 8; CompType: Capacitor; AEC Qualified: Y; Cap_F: 10µF; AEC Grade: 1; AEC Category: Q200; Supplier Part Number 2: 810-CGA6P1X7R1E106M; Publisher: Texas Instruments; Supplier 2: Mouser; Published: 2008-06-19; RoHS: Y; MountType: SMT; Supplier 1: Digi-Key; PackageReference: 1210; LatestRevisionDate: 2017-03-09; PartNumber: CGA6P1X7R1E106M250AC; VDC_V: 25V; ComponentLink1Description: Datasheet link; Supplier Part Number 1: 445-5720-1-ND; Technology: Ceramic; ComponentLink1URL: http://product.tdk.com/en/catalog/datasheets/mlcc_automotive_general_en.pdf
footprint C_1206_3216Metric
pins: 1, 2

## CAP 10uF 1210
designator C?, comment ValueDisplayed: 10uF  (hidden comment: CGA6P1X7R1E106M250AC)
CAP, CERM, 10 uF, 25 V, +/- 20%, X7R, AEC-Q200 Grade 1, 1210; Manufacturer: TDK; TaMin_C: -55°C; Polarized: N; SizeAreaWB_mm2: 14.7; Value1: Unknown; U/M: EA; Value: 10uF; TaMax_C: 125°C; SizeZ_mm: 2.8; SizeX_mm: 3.2; SizeY_mm: 2.5; Cap_Case: 1210; Value2: 25V; SizeArea_mm2: 8; CompType: Capacitor; AEC Qualified: Y; Cap_F: 10µF; AEC Grade: 1; AEC Category: Q200; Supplier Part Number 2: 810-CGA6P1X7R1E106M; Publisher: Texas Instruments; Supplier 2: Mouser; TempCo: X7R; Published: 2008-06-19; RoHS: Y; MountType: SMT; Supplier 1: Digi-Key; PackageReference: 1210; Tolerance_%: 20%; LatestRevisionDate: 2017-03-09; PartNumber: CGA6P1X7R1E106M250AC; VDC_V: 25V; ComponentLink1Description: Datasheet link; Supplier Part Number 1: 445-5720-1-ND; Technology: Ceramic; ComponentLink1URL: http://product.tdk.com/en/catalog/datasheets/mlcc_automotive_general_en.pdf
footprint 1210_280 (SMD, 2-Leads, Body 3.6x2.8mm, Height 2.8mm)
pins: 1, 2

## CAP 22uF 0805
designator C?, comment ValueDisplayed: 22µF  (hidden comment: GRT21BR61E226ME13L)
CAP, CERM, 22 µF, 25 V,+/- 20%, X5R, AEC-Q200 Grade 3, 0805; Manufacturer: MuRata; SizeX_mm: 2; SizeAreaWB_mm2: 6.75; Cap_Case: 0805; AEC Grade: 3; SizeY_mm: 1.25; SizeArea_mm2: 2.5; SizeZ_mm: 1.45; U/M: EA; Polarized: N; CompType: Capacitor; VDC_V: 25V; AEC Category: Q200; Value: 22uF; TaMin_C: -55°C; AEC Qualified: Y; TaMax_C: 85°C; TempCo: X5R; ComponentLink1URL: https://search.murata.co.jp/Ceramy/image/img/A01X/G101/ENG/GRT21BR61E226ME13-01.pdf; ComponentLink1Description: Datasheet link; PartNumber: GRT21BR61E226ME13L; MountType: SMT; RoHS: Y; Cap_F: 22µF; Tolerance_%: 20%; PackageReference: 0805; Value2: 25V; Technology: Ceramic
footprint 0805_HV (0805 with 30mil clearance between pads)
footprint 0805_HV1 (Custom footprint based on analyzing multiple manufacturer recommendations)
footprint 0805 (0805 from SM-752 data)
footprint 0805M (0805 from SM-752 data)
footprint 0805L (0805 from SM-752 data)
pins: 1, 2

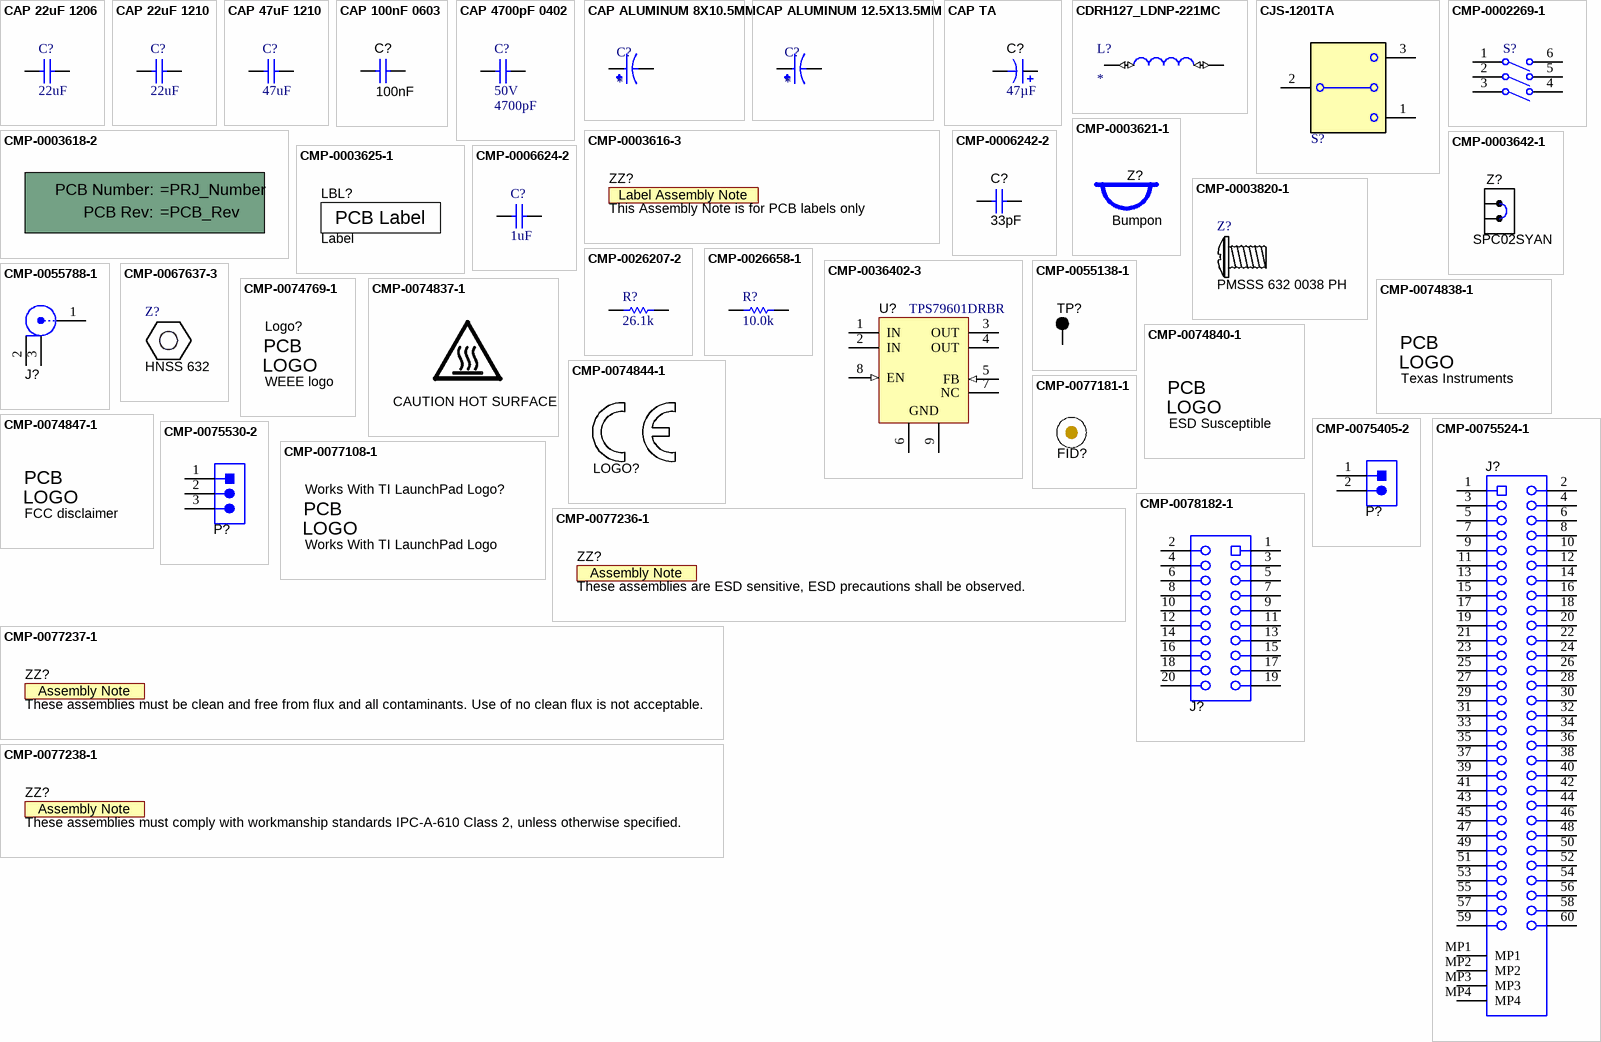
[diagram p1: symbols CAP 22uF 1206 to CMP-0078182-1]

## CAP 22uF 1206
designator C?, comment ValueDisplayed: 22uF  (hidden comment: GCM31CR70J226KE23L)
CAP, CERM, 22 uF, 6.3 V, +/- 10%, X7R, AEC-Q200 Grade 1, 1206; Manufacturer: MuRata; TaMin_C: -55°C; Polarized: N; SizeAreaWB_mm2: 10.92; Value1: Unknown; U/M: EA; Value: 22uF; TaMax_C: 125°C; SizeZ_mm: 1.8; SizeX_mm: 3.2; SizeY_mm: 1.6; Cap_Case: 1206; Value2: 6.3V; SizeArea_mm2: 5.12; CompType: Capacitor; AEC Qualified: Y; Cap_F: 22µF; AEC Grade: 1; AEC Category: Q200; Supplier Part Number 2: 81-GCM31CR70J226KE3L; Publisher: Texas Instruments; Supplier 2: Mouser; TempCo: X7R; Published: 2008-06-19; RoHS: Y; MountType: SMT; Supplier 1: Digi-Key; PackageReference: 1206; Tolerance_%: 10%; LatestRevisionDate: 2017-03-09; PartNumber: GCM31CR70J226KE23L; VDC_V: 6.3V; ComponentLink1Description: Datasheet link; Supplier Part Number 1: 490-4843-1-ND; Technology: Ceramic; ComponentLink1URL: http://psearch.en.murata.com/capacitor/product/GCM31CR70J226KE23%23.pdf
footprint 1206_180
footprint 1206_180L (1206_180)
footprint 1206_180M (1206_180)
pins: 1, 2

## CAP 22uF 1210
designator C?, comment ValueDisplayed: 22uF  (hidden comment: GCM32ER71C226KE19L)
CAP, CERM, 22 uF, 16 V, +/- 10%, X7R, 1210; Manufacturer: MuRata; TaMin_C: -55°C; Polarized: N; SizeAreaWB_mm2: 14.7; Value1: Unknown; U/M: EA; Value: 22uF; TaMax_C: 125°C; SizeZ_mm: 2.8; SizeX_mm: 3.2; SizeY_mm: 2.5; Cap_Case: 1210; Value2: 16V; SizeArea_mm2: 8; CompType: Capacitor; Cap_F: 22µF; AEC Category: Q200; Supplier Part Number 2: 81-GCM32ER71C226K19L; Publisher: Texas Instruments; Supplier 2: Mouser; TempCo: X7R; Published: 2008-06-19; RoHS: Y; MountType: SMT; Supplier 1: Digi-Key; PackageReference: 1210; Tolerance_%: 10%; LatestRevisionDate: 2017-03-09; PartNumber: GCM32ER71C226KE19L; AEC Qualified: ?; VDC_V: 16V; ComponentLink1Description: Datasheet link; Supplier Part Number 1: 490-5242-1-ND; Technology: Ceramic; ComponentLink1URL: http://www.murata.com/~/media/webrenewal/support/library/catalog/products/capacitor/mlcc/c03e.ashx
footprint 1210_280 (SMD, 2-Leads, Body 3.6x2.8mm, Height 2.8mm)
pins: 1, 2

## CAP 47uF 1210
designator C?, comment ValueDisplayed: 47uF  (hidden comment: GCM32ER70J476KE19L)
CAP, CERM, 47 uF, 6.3 V, +/- 10%, X7R, AEC-Q200 Grade 1, 1210; Manufacturer: MuRata; TaMin_C: -55°C; Polarized: N; SizeAreaWB_mm2: 14.7; Value1: Unknown; U/M: EA; Value: 47uF; TaMax_C: 125°C; SizeZ_mm: 2.7; SizeX_mm: 3.2; SizeY_mm: 2.5; Cap_Case: 1210; Value2: 6.3V; SizeArea_mm2: 8; CompType: Capacitor; AEC Qualified: Y; Cap_F: 47µF; AEC Grade: 1; AEC Category: Q200; Supplier Part Number 2: 06AC6022; Publisher: Texas Instruments; Supplier 2: Newark; Supplier Part Number 3: 81-GCM32ER70J476KE9L; TempCo: X7R; Supplier 3: Mouser; Published: 2008-06-19; RoHS: Y; MountType: SMT; Supplier 1: Digi-Key; PackageReference: 1210; Tolerance_%: 10%; LatestRevisionDate: 2017-03-09; PartNumber: GCM32ER70J476KE19L; VDC_V: 6.3V; ComponentLink1Description: Datasheet link; Supplier Part Number 1: 490-4844-1-ND; Technology: Ceramic; ComponentLink1URL: http://search.murata.co.jp/Ceramy/image/img/A01X/G101/ENG/GCM32ER70J476KE19-01.pdf
footprint 1210_270 (1210)
footprint 1210_270L (1210)
footprint 1210_270M (1210)
pins: 1, 2

## CAP 100nF 0603
designator C?  ValueDisplayed: 100nF  (hidden comment: CAP 100nF 0603)
CAP, CERM, 100 nF, 25 V, +/- 10%, X7R, AEC-Q200 Grade 1, 0603; Manufacturer: MuRata; PartNumber: GCM188R70J225KE22D; TaMin_C: -55°C; Polarized: N; SizeAreaWB_mm2: 4.68; Value1: Unknown; U/M: EA; Value: 2.2uF; TaMax_C: 125°C; SizeZ_mm: 1; SizeX_mm: 1.6; SizeY_mm: 0.8; Cap_Case: 0603; Value2: 6.3V; SizeArea_mm2: 1.28; CompType: Capacitor; AEC Qualified: Y; Cap_F: 2.2µF; AEC Category: Q200; Supplier Part Number 2: 81-GCM188R70J225KE2D; Publisher: Texas Instruments; Supplier 2: Mouser; TempCo: X7R; Published: 2008-06-19; RoHS: Y; MountType: SMT; Supplier 1: Digi-Key; PackageReference: 0603; Tolerance_%: 10%; LatestRevisionDate: 2017-03-09; VDC_V: 6.3V; ComponentLink1Description: Datasheet link; AEC Grade: 1; Supplier Part Number 1: 490-5316-1-ND; Technology: Ceramic; ComponentLink1URL: http://psearch.en.murata.com/capacitor/product/GCM188R70J225KE22%23.pdf
footprint 0603 (0603 from SM-752 data)
footprint 0603_HV (Ernesto recommended land pattern.  26 mil between pads.)
footprint 0603L (0603 from SM-752 data)
footprint 0603S
footprint 0603M (0603 from SM-752 data)
pins: 1, 2

## CAP 4700pF 0402
designator C?, comment VDC_V: 50V  ValueDisplayed: 4700pF  (hidden comment: GCM155R71H472KA37D)
CAP, CERM, 4700 pF, 50 V, +/- 10%, X7R, AEC-Q200 Grade 1, 0402; Manufacturer: MuRata; TaMin_C: -55°C; Polarized: N; SizeAreaWB_mm2: 3; Value1: Unknown; U/M: EA; Value: 4700pF; TaMax_C: 125°C; SizeZ_mm: 0.6; SizeX_mm: 1; SizeY_mm: 0.5; Cap_Case: 0402; CompType: Capacitor; AEC Qualified: Y; Cap_F: 4.7nF; AEC Category: Q200; Supplier Part Number 2: 81-GCM155R71H472K37D; Publisher: Texas Instruments; Supplier 2: Mouser; TempCo: X7R; Published: 2008-06-19; RoHS: Y; MountType: SMT; Supplier 1: Digi-Key; PackageReference: 0402; Tolerance_%: 10%; Value2: 50V; SizeArea_mm2: 0.5; LatestRevisionDate: 2017-03-09; PartNumber: GCM155R71H472KA37D; ComponentLink1Description: Datasheet link; AEC Grade: 1; Supplier Part Number 1: 490-4915-1-ND; Technology: Ceramic; ComponentLink1URL: http://psearch.murata.com/capacitor/product/GCM155R71H472KA37%23.pdf
footprint 0402 (0402 from SM-752 data)
footprint 0402S (Based on C0402S footprint from PADS legacy)
footprint 0402L (0402 from SM-752 data)
footprint 0402M (0402 from SM-752 data)
pins: 1, 2

## CAP ALUMINUM 8X10.5MM
designator C?
Aluminum Electrolytic Capacitors, FT-V (????????) Series, 470uF +/- 20%, 25V, Surface mount type(8x10.5mm) Vibration-proof product; MF: Panasonic; MP: EEE-FT1E471AV; SnapEDA_Link: https://www.snapeda.com/parts/EEE-FT1E471AV/Panasonic/view-part/?ref=snap; Package: RADIAL-2 Panasonic; Value: *; Check_prices: https://www.snapeda.com/parts/EEE-FT1E471AV/Panasonic/view-part/?ref=eda
footprint CAP_EEEFT1E471AV
pins: 1, 2

## CAP ALUMINUM 12.5X13.5MM
designator C?
CAPACITOR ALUM ELEC, 330UF, 20%, 35V, SMD; Product Range:PANASONIC - TK Series; Capacitance:330ÂµF; Capacitance Tolerance:Â± 20%; Capacitor Case Style:SMD; Diameter:12.5mm; ESR:0.12ohm; Height:13.5mm; Operating Temperature Max:125Â°C ;RoHS Compliant: Yes; MP: EEETK1V331AQ; Value: *; Price: None; Package: RADIAL-2 Panasonic; MF: Panasonic; Availability: No availability data; Check_prices: https://www.snapeda.com/parts/EEETK1V331AQ/Panasonic/view-part/5787067/?ref=eda; SnapEDA_Link: https://www.snapeda.com/parts/EEETK1V331AQ/Panasonic/view-part/5787067/?ref=snap
footprint CAP_EEETK1V331AQ
pins: 1, 2

## CAP TA
designator C?, comment ValueDisplayed: 47µF  (hidden comment: T491B476K010AT)
CAP, TA, 47 µF, 10 V, +/- 10%, SMD; Manufacturer: Kemet; TaMin_C: -55°C; Polarized: Y; SizeAreaWB_mm2: 17.1; Value: 47uF; TaMax_C: 125°C; SizeZ_mm: 2.1; SizeX_mm: 3.5; SizeY_mm: 2.8; Cap_Case: 3528-21; Value2: 10V; SizeArea_mm2: 9.8; CompType: Capacitor; AEC Qualified: N; AEC Category: Q200; ComponentLink1URL: https://content.kemet.com/datasheets/KEM_T2005_T491.pdf; Supplier Part Number 2: 57K1819; Supplier 2: Newark; Supplier Part Number 3: 80-T491B476K010; Supplier 3: Mouser; RoHS: Y; MountType: SMT; Supplier 1: Digi-Key; PackageReference: 3528-21; Tolerance_%: 10%; PartNumber: T491B476K010AT; Series: T491; Cap_F: 47µF; VDC_V: 10V; ComponentLink1Description: Datasheet link; AEC Grade: N/A; Supplier Part Number 1: 399-9728-1-ND; Technology: TA
footprint 3528-21 (Medium Density IPC, based on Kemet datasheet 2016-10-20)
pins: 1 +, 2 -

## CDRH127_LDNP-221MC
designator L?
220 ÂµH Shielded - Inductor 1.45 A 338mOhm Max Nonstandard; MF: Sumida America; MP: CDRH127/LDNP-221MC; SnapEDA_Link: https://www.snapeda.com/parts/CDRH127/LDNP-221MC/Sumida+America+Components+Inc./view-part/?ref=snap; Package: Nonstandard Sumida; Value: *; Check_prices: https://www.snapeda.com/parts/CDRH127/LDNP-221MC/Sumida+America+Components+Inc./view-part/?ref=eda
footprint INDPM120120X800N
pins: 1 (io), 2 (io)

## CJS-1201TA
designator S?  (value not drawn)
Slide SW, SPDT 0.1A 50VDC; Manufacturer: Copal Electronics; CurrentRating_mA: 100A; SwitchFunction: On-Off-On; VDC_V: 50V; PositionCount: 1; CompType: Switch; ComponentLink1Description: Datasheet URL; LatestRevisionDate: 2017-03-09; PackageReference: SW, 3.1x2.5x6 mm; Publisher: Texas Instruments; Supplier 1: Digi-Key; Supplier Part Number 1: 563-1023-1-ND; MountType: SMT; Circuit: SPDT; Orientation: Side Actuated; PartNumber: CJS-1201TA; RoHS: Y; ComponentLink1URL: http://copal-electronics.info/en/0008e/02461.pdf
footprint SW_CJS_1201A (Copal- Electronics)
pins: 1, 2 COM, 3

## CMP-0002269-1
designator S?, comment 219-3MST  (value not drawn)
Switch, SPST, Slide, Off-On, 3 Pos, 0.1A, 20V, SMD; Manufacturer: CTS Electrocomponents; CurrentRating_mA: 100A; PositionCount: 3; Supplier 2: Mouser; Supplier 1: Digi-Key; Supplier Part Number 1: CT2193MST-ND; Supplier Part Number 2: 774-2193MST; PartNumber: 219-3MST; ComponentLink1Description: Datasheet Link; LatestRevisionDate: 2017-03-09; ComponentLink1URL: http://www.ctscorp.com/wp-content/uploads/2015/11/219.pdf; CompType: Switch; PackageReference: 6.7x9.09mm; Publisher: Texas Instruments; Circuit: SPST; VDC_V: 20V; RoHS: Y; Orientation: Horizontal; SwitchFunction: Off-On; MountType: SMT
footprint SW_219-3MST (SMD, 6-Leads, Body 6.7x9.09mm, Pitch 2.54mm)
pins: 1 A1, 2 A2, 3 A3, 4 B3, 5 B2, 6 B1

## CMP-0003616-3
designator ZZ?, comment This Assembly Note is for PCB labels only  (no BOM)
Key: AssemblyNoteLabel; CompType: AssemblyNote; ClassName: AssemblyNote; Publisher: Texas Instruments; LatestRevisionDate: 2017-03-09
footprint AssemblyNoteLabel (Assembly Note for PCB Labels)
text: Label Assembly Note

## CMP-0003618-2
designator !PCB?, comment PROC051  (value not drawn)  (mechanical)
Printed Circuit Board; Manufacturer: Any; CompType: PCB; PartNumber: PROC051; RoHS: O; MountType: N/A; Publisher: Texas Instruments; LatestRevisionDate: 2017-03-09; Key: PCB
1 alternate drawing of the same symbol
text: PCB Number:; PCB Rev:

## CMP-0003621-1
designator Z?, comment Bumpon  (mechanical)
Bumpon, Cylindrical, 0.312 X 0.200, Black; Manufacturer: 3M; PartNumber: SJ61A1; CompType: Bumpon; RoHS: Y; PackageReference: Black Bumpon; MountType: N/A; ComponentLink1Description: Datasheet Link; ComponentLink1URL: http://multimedia.3m.com/mws/mediawebserver?mwsId=66666UF6EVsSyXTtOxTXoxMtEVtQEVs6EVs6EVs6E666666--&fn=SJxxA1.pdf; Publisher: Texas Instruments; LatestRevisionDate: 2017-03-09; Supplier 1: Digi-Key; Supplier Part Number 1: SJ5746-0-ND; Supplier 2: Mouser; Supplier Part Number 2: 517-SJ-61A1; Key: SJ61A1
footprint Bumpon_SJ61A1 (3M Cylindrical Bumpon black)

## CMP-0003625-1
designator LBL?, comment Label
Thermal Transfer Printable Labels, 0.650" W x 0.200" H - 10,000 per roll; Manufacturer: Brady; PartNumber: THT-14-423-10; Note: Size: 0.65" x 0.20 "; ClassName: Label; CompType: Label; RoHS: Y; PackageReference: PCB Label 0.650 x 0.200 inch; MountType: N/A; ComponentLink1Description: Web Page; ComponentLink1URL: http://www.bradyid.com/bradyid/pdpv/THT-14-423-10.html; Publisher: Texas Instruments; LatestRevisionDate: 2017-03-09; Supplier 1: Newark; Supplier Part Number 1: 97C5133; Supplier 2: Farnell; Supplier Part Number 2: 2065596; Key: THT-14-423-10
footprint Label_650x200 (Thermal Transfer Label)
text: PCB Label

## CMP-0003642-1
designator Z?, comment SPC02SYAN  (mechanical)
Shunt, 100mil, Flash Gold, Black; Manufacturer: Sullins Connector Solutions; Value: 1x2; Note: You can "mate" this to a header by matching the designator.  i.e. use SH-J3 for header J3; CompType: Shunt; ClassName: Shunt; PartNumber: SPC02SYAN; RoHS: Y; PackageReference: Closed Top 100mil Shunt; MountType: N/A; ComponentLink1Description: Datasheet Link; ComponentLink1URL: http://www.sullinscorp.com/drawings/134_C02SYAN_11134.pdf; Publisher: Texas Instruments; LatestRevisionDate: 2017-03-09; Supplier 1: Digi-Key; Supplier Part Number 1: S9001-ND; Key: SPC02SYAN
footprint SPC02SYAN (SULLINS)

## CMP-0003820-1
designator Z?, comment PMSSS 632 0038 PH  (mechanical)
MACHINE SCREW PAN PHILLIPS 6-32; Manufacturer: B&F Fastener Supply; Note: Symbol and footprint updated; CompType: Hardware; ComponentLink1URL: http://www.fasnetdirect.com/refguide/Machinepancombo.pdf; Key: PMSSS 632 0038 PH; Publisher: Texas Instruments; Supplier 1: Digi-Key; LatestRevisionDate: 2017-03-09; RoHS: Y; Supplier Part Number 1: H710-ND; MountType: TH; PartNumber: PMSSS 632 0038 PH; ComponentLink1Description: Datasheet Link
footprint B-F_PMSSS_632_0038_PH